# Altium schematic symbol library DAC5574.SchLib: 1 symbol
Pins are listed as number, name and electrical type; pins without a type are passive.

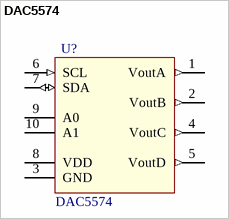
[diagram p0: symbol DAC5574]

## DAC5574
designator U?
QUAD, 8-BIT, LOW-POWER, VOLTAGE OUTPUT, / I2C INTERFACE DIGITAL-TO-ANALOG CONVERTER; value: DAC5574
footprint VSSOP-10 (VSSOP, 10-Leads, Body 3.00x3.00mm, Pitch 0.50mm, IPC Medium Density)
pins: 1 VoutA (out), 2 VoutB (out), 3 GND (power), 4 VoutC (out), 5 VoutD (out), 6 SCL (in), 7 SDA (io), 8 VDD (power), 9 A0, 10 A1